# EAGLE library part MMA51XXKW (library meltylib)
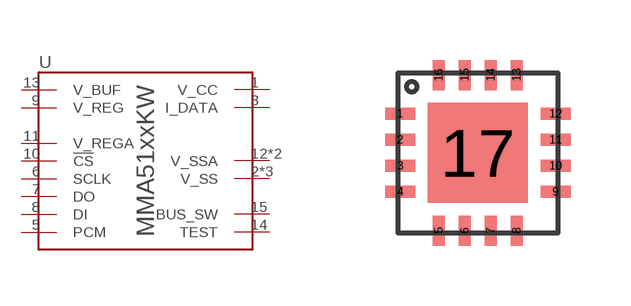
[diagram p3: symbol with the pads of QFN16; footprint QFN16]

Designator prefix U

## MMA51XXKW  [QFN16]
1  V_CC
2  V_SS
3  I_DATA
4  V_SS
5  PCM
6  SCLK
7  DO
8  DI
9  V_REG
10  !CS
11  V_REGA
12  V_SSA
13  V_BUF
14  TEST
15  BUS_SW
16  V_SSA
17  V_SS

## Footprint QFN16 (pad centres in mm)
smd 0.75 x 0.3: 1 -1.945,0.975; 2 -1.945,0.325; 3 -1.945,-0.325; 4 -1.945,-0.975; 9 1.945,-0.975; 10 1.945,-0.325; 11 1.945,0.325; 12 1.945,0.975
smd 0.3 x 0.75: 5 -0.975,-1.945; 6 -0.325,-1.945; 7 0.325,-1.945; 8 0.975,-1.945; 13 0.975,1.945; 14 0.325,1.945; 15 -0.325,1.945; 16 -0.975,1.945
smd 2.5 x 2.5: 17 0,0